# EAGLE library part RJ45-1000BASE-GENERAL (library ds_con)
1 Port RJ45 Through Hole 10/100/1000 Base-T
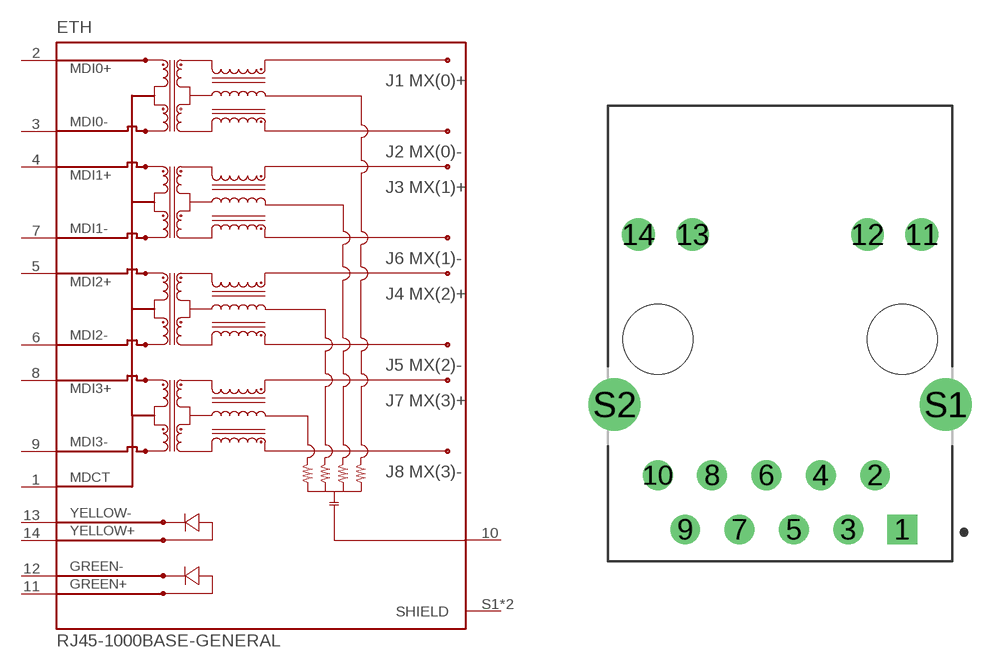
[diagram p19: symbol with the pads of RJ45-1000BASE-GENERAL; footprint RJ45-1000BASE-GENERAL]

Designator prefix ETH

## RJ45-1000BASE-GENERAL (DATASHEET: https://jlcpcb.com/api/file/downloadByFileSystemAccessId/8588887489490112512; DESCRIPTION: 1 RJ45 Jack With LED Plugin Ethernet Connectors / Modular Connectors (RJ45 RJ11) ROHS; HQ_PART: CO0888966; LCSC_PART: C54408; MANUFACTURER: Hanrun; MPN: HR911130A; ROHS: YES; VALUE: ETH-RJ45-1G)  [RJ45-1000BASE-GENERAL]
1  MDCT(3)  pas
2  MD(0)+  pas
3  MD(0)-  pas
4  MD(1)+  pas
5  MD(2)+  pas
6  MD(2)-  pas
7  MD(1)-  pas
8  MD(3)+  pas
9  MD(3)-  pas
10  COM
11  GREEN+  pas
12  GREEN-  pas
13  YELLOW-  pas
14  YELLOW+  pas
S1  SHIELD  pas
S2  SHIELD  pas

## Footprint RJ45-1000BASE-GENERAL (pad centres in mm)
drill 0.89 square: 1 5.72,-8.89
drill 0.89: 2 4.44,-6.35; 3 3.18,-8.89; 4 1.9,-6.35; 5 0.64,-8.89; 6 -0.64,-6.35; 7 -1.9,-8.89; 8 -3.18,-6.35; 9 -4.44,-8.89; 10 -5.72,-6.35
drill 1.02: 11 6.625,4.9; 12 4.085,4.9; 13 -4.085,4.9; 14 -6.625,4.9
drill 1.63: S1 7.745,-3.05; S2 -7.745,-3.05
hole 3.25 at 5.715,0
hole 3.25 at -5.715,0